# EAGLE library part 74HC4067 (library ds_ic_logic)
16-channel analog multiplexer/demultiplexer
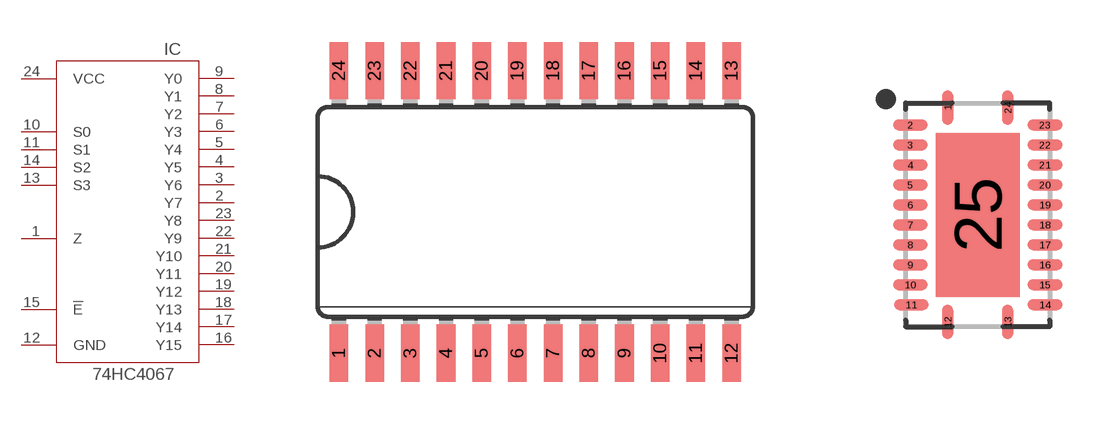
[diagram p4: symbol with the pads of SO24L; footprints SO24L, QFN50P545X350X100-25T410X210N]

Designator prefix IC

## 74HC4067SMD  [SO24L]
1  Z
2  Y7
3  Y6
4  Y5
5  Y4
6  Y3
7  Y2
8  Y1
9  Y0
10  S0
11  S1
12  GND
13  S3
14  S2
15  !E
16  Y15
17  Y14
18  Y13
19  Y12
20  Y11
21  Y10
22  Y9
23  Y8
24  VCC

## 74HC4067RGYR (DATASHEET: https://mm.digikey.com/Volume0/opasdata/d220001/medias/docus/7153/PdfFile_284914.pdf; DESCRIPTION: 5V, 16:1, SINGLE CHANNEL ANALOG; LCSC_PART: C48731601; MANUFACTURER: Texas Instruments; MPN: CD74HCT4067RGYR; ROHS: YES; VALUE: CD74HCT4067RGYR)  [QFN50P545X350X100-25T410X210N]
1  Z
2  Y7
3  Y6
4  Y5
5  Y4
6  Y3
7  Y2
8  Y1
9  Y0
10  S0
11  S1
12  GND
13  S3
14  S2
15  !E
16  Y15
17  Y14
18  Y13
19  Y12
20  Y11
21  Y10
22  Y9
23  Y8
24  VCC
25  GND

## Footprint SO24L (pad centres in mm)
Small Outline Package
smd 0.66 x 2.032: 1 -6.985,-5.029; 2 -5.715,-5.029; 3 -4.445,-5.029; 4 -3.175,-5.029; 5 -1.905,-5.029; 6 -0.635,-5.029; 7 0.635,-5.029; 8 1.905,-5.029; 9 3.175,-5.029; 10 4.445,-5.029; 11 5.715,-5.029; 12 6.985,-5.029; 13 6.985,5.029; 14 5.715,5.029; 15 4.445,5.029; 16 3.175,5.029; 17 1.905,5.029; 18 0.635,5.029; 19 -0.635,5.029; 20 -1.905,5.029; 21 -3.175,5.029; 22 -4.445,5.029; 23 -5.715,5.029; 24 -6.985,5.029

## Footprint QFN50P545X350X100-25T410X210N (pad centres in mm)
24-QFN, 0.50 mm pitch, 5.45 X 3.50 X 1.00 mm body, 4.10 X 2.10 mm thermal pad 24-pin QFN package with 0.50 mm pitch with body size 5.45 X 3.50 X 1.00 mm and thermal pad size 4.10 X 2.10 mm
smd 0.27 x 0.86: 1 -0.75,2.685; 12 -0.75,-2.685; 13 0.75,-2.685; 24 0.75,2.685
smd 0.86 x 0.27: 2 -1.685,2.25; 3 -1.685,1.75; 4 -1.685,1.25; 5 -1.685,0.75; 6 -1.685,0.25; 7 -1.685,-0.25; 8 -1.685,-0.75; 9 -1.685,-1.25; 10 -1.685,-1.75; 11 -1.662,-2.25; 14 1.685,-2.25; 15 1.685,-1.75; 16 1.685,-1.25; 17 1.685,-0.75; 18 1.685,-0.25; 19 1.685,0.25; 20 1.685,0.75; 21 1.685,1.25; 22 1.685,1.75; 23 1.685,2.25
smd 2.1 x 4.1: 25 0,0